# Altium footprint library OSSI.PCBLIB: 194 footprints (part 8 of 13)
Each footprint in its own frame and in the unit in brackets; x right, y up, seen from the top. Pads: shape width x height; smd on the part's side, far side on the other; paste and mask are expansions set on the pad; w line width, h text height; cw(c..) or ccw(c..) is an arc to the next point about the centre after c.
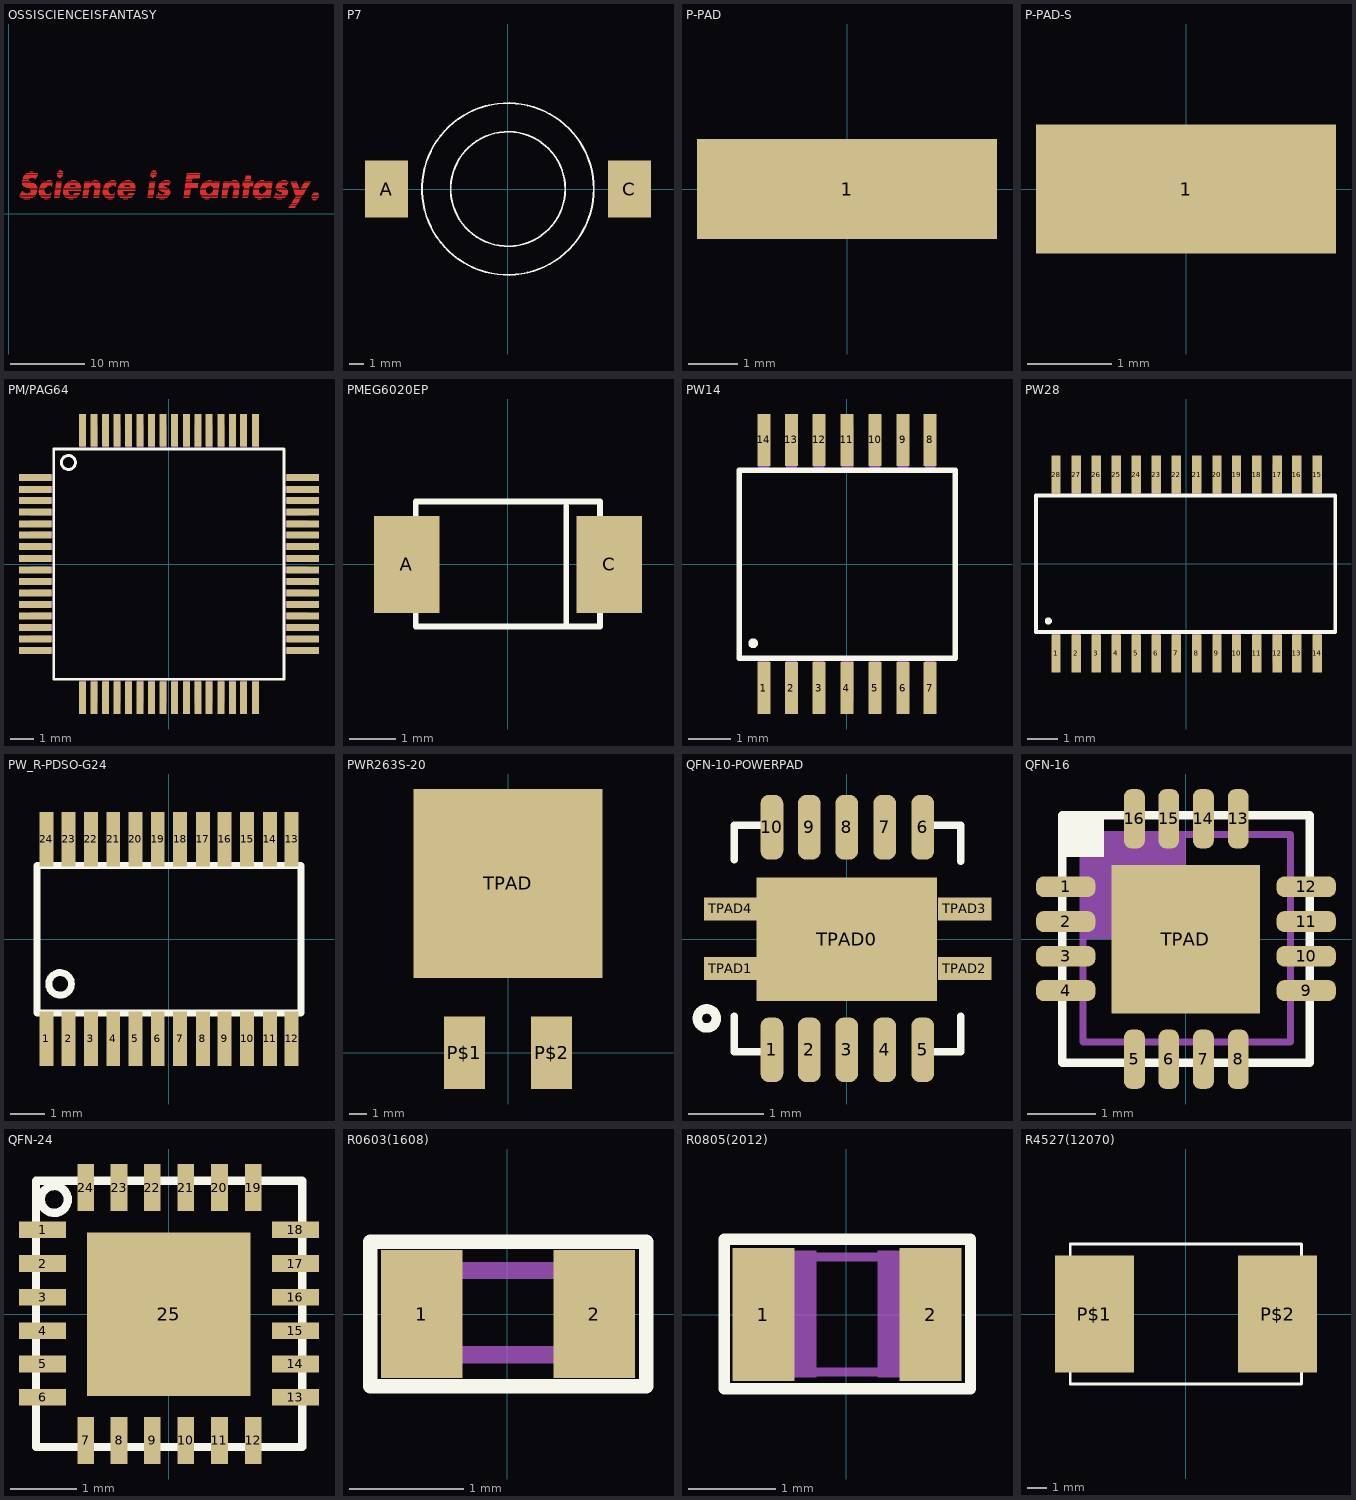
[diagram p7: the footprints below, top view; thin cyan lines are the x and y axes]

## OSSISCIENCEISFANTASY [mil]
Top Layer:
  drawing of 3176 lines, arcs and shapes, not listed
Top Solder:
  drawing of 3176 lines, arcs and shapes, not listed

## P7 [mil]
pads (2):
  rect 119x158 smd: A(-334.65,0) C(335,0)
Top Overlay:
  circle w5: c0,0 r158
  circle w5: c0,0 r237
Mechanical 2:
  text ">NAME" at -200,-350 h77.5
Mechanical 4:
  text ">VALUE" at -200,-400 h77.5

## P-PAD [mil]
pads (1):
  rect 237x79 smd: 1(0,0)
Mechanical 2:
  text ">NAME" at -150,50 h77.5
Mechanical 4:
  text ">VALUE" at -150,-100 h77.5

## P-PAD-S [mil]
pads (1):
  rect 140x60 smd: 1(0,0)
Mechanical 2:
  text ">NAME" at -100,50 h77.5
Mechanical 4:
  text ">VALUE" at -100,-100 h77.5

## PM/PAG64 [mil]
pads (64):
  rect 56x12 smd: 1(-228.35,148) 2(-228.35,128) 3(-228.35,109) 4(-228.35,89) 5(-228.35,69) 6(-228.35,50) 7(-228.35,30) 8(-228.35,10) 9(-228.35,-9.84) 10(-228.35,-29.53) 11(-228.35,-49.21) 12(-228.35,-68.9) 13(-228.35,-88.58) 14(-228.35,-108.27) 15(-228.35,-127.95) 16(-228.35,-147.64) 33(229,-147.64) 34(229,-127.95) 35(229,-108.27) 36(229,-88.58) 37(229,-68.9) 38(229,-49.21) 39(229,-29.53) 40(229,-9.84) 41(229,10) 42(229,30) 43(229,50) 44(229,69) 45(229,89) 46(229,109) 47(229,128) 48(229,148)
  rect 12x56 smd: 17(-147.64,-228.35) 18(-127.95,-228.35) 19(-108.27,-228.35) 20(-88.58,-228.35) 21(-68.9,-228.35) 22(-49.21,-228.35) 23(-29.53,-228.35) 24(-9.84,-228.35) 25(10,-228.35) 26(30,-228.35) 27(50,-228.35) 28(69,-228.35) 29(89,-228.35) 30(109,-228.35) 31(128,-228.35) 32(148,-228.35) 49(148,229) 50(128,229) 51(109,229) 52(89,229) 53(69,229) 54(50,229) 55(30,229) 56(10,229) 57(-9.84,229) 58(-29.53,229) 59(-49.21,229) 60(-68.9,229) 61(-88.58,229) 62(-108.27,229) 63(-127.95,229) 64(-147.64,229)
Top Overlay:
  circle w5: c-171.85,174 r12
  lines w5: -196.85,-196.85 197,-196.85 197,197 -196.85,197 -196.85,-196.85
Mechanical 2:
  text ">NAME" at -124.21,61 h77.5
Mechanical 4:
  rectangle: -153.15,200 -142.13,238
  rectangle: -133.46,200 -122.44,238
  rectangle: -113.78,200 -102.76,238
  rectangle: -94.09,200 -83.07,238
  rectangle: -74.41,200 -63.39,238
  rectangle: -54.72,200 -43.7,238
  rectangle: -35.04,200 -24.02,238
  rectangle: -15.35,200 -4.33,238
  rectangle: 5,200 16,238
  rectangle: 25,200 36,238
  rectangle: 44,200 55,238
  rectangle: 64,200 75,238
  rectangle: 84,200 95,238
  rectangle: 103,200 114,238
  rectangle: 123,200 134,238
  rectangle: 143,200 154,238
  rectangle: -153.15,-237.4 -142.13,-199.21
  rectangle: -133.46,-237.4 -122.44,-199.21
  rectangle: -113.78,-237.4 -102.76,-199.21
  rectangle: -94.09,-237.4 -83.07,-199.21
  rectangle: -74.41,-237.4 -63.39,-199.21
  rectangle: -54.72,-237.4 -43.7,-199.21
  rectangle: -35.04,-237.4 -24.02,-199.21
  rectangle: -15.35,-237.4 -4.33,-199.21
  rectangle: 5,-237.4 16,-199.21
  rectangle: 25,-237.4 36,-199.21
  rectangle: 44,-237.4 55,-199.21
  rectangle: 64,-237.4 75,-199.21
  rectangle: 84,-237.4 95,-199.21
  rectangle: 103,-237.4 114,-199.21
  rectangle: 123,-237.4 134,-199.21
  rectangle: 143,-237.4 154,-199.21
  region: 199.5,153.5 199.5,142.5 237.5,142.5 237.5,153.5
  region: 199,134 199,123 238,123 238,134
  region: 199.5,114.5 199.5,103.5 237.5,103.5 237.5,114.5
  region: 199.5,94.5 199.5,83.5 237.5,83.5 237.5,94.5
  region: 199.5,74.5 199.5,63.5 237.5,63.5 237.5,74.5
  region: 199.5,55.5 199.5,44.5 237.5,44.5 237.5,55.5
  region: 199.5,35.5 199.5,24.5 237.5,24.5 237.5,35.5
  region: 199.37,15.37 199.37,4.37 237.63,4.37 237.63,15.37
  region: 199.03,-3.97 199.03,-14.97 237.97,-14.97 237.97,-3.97
  region: 199.41,-24.03 199.41,-35.03 237.59,-35.03 237.59,-24.03
  region: 199.41,-43.71 199.41,-54.71 237.59,-54.71 237.59,-43.71
  region: 199.41,-63.4 199.41,-74.4 237.59,-74.4 237.59,-63.4
  region: 199.41,-83.08 199.41,-94.08 237.59,-94.08 237.59,-83.08
  region: 199.41,-102.77 199.41,-113.77 237.59,-113.77 237.59,-102.77
  region: 199.41,-122.45 199.41,-133.45 237.59,-133.45 237.59,-122.45
  region: 199.41,-142.14 199.41,-153.14 237.59,-153.14 237.59,-142.14
  region: -237.31,153.51 -237.31,142.49 -199.31,142.49 -199.31,153.51
  region: -237.81,134.01 -237.81,122.99 -198.81,122.99 -198.81,134.01
  region: -237.31,114.51 -237.31,103.49 -199.31,103.49 -199.31,114.51
  region: -237.31,94.51 -237.31,83.49 -199.31,83.49 -199.31,94.51
  region: -237.31,74.51 -237.31,63.49 -199.31,63.49 -199.31,74.51
  region: -237.31,55.51 -237.31,44.49 -199.31,44.49 -199.31,55.51
  region: -237.31,35.51 -237.31,24.49 -199.31,24.49 -199.31,35.51
  region: -237.43,15.39 -237.43,4.36 -199.18,4.36 -199.18,15.39
  region: -237.78,-3.96 -237.78,-14.98 -198.84,-14.98 -198.84,-3.96
  region: -237.4,-24.02 -237.4,-35.04 -199.21,-35.04 -199.21,-24.02
  region: -237.4,-43.7 -237.4,-54.72 -199.21,-54.72 -199.21,-43.7
  region: -237.4,-63.39 -237.4,-74.41 -199.21,-74.41 -199.21,-63.39
  region: -237.4,-83.07 -237.4,-94.09 -199.21,-94.09 -199.21,-83.07
  region: -237.4,-102.76 -237.4,-113.78 -199.21,-113.78 -199.21,-102.76
  region: -237.4,-122.44 -237.4,-133.46 -199.21,-133.46 -199.21,-122.44
  region: -237.4,-142.13 -237.4,-153.15 -199.21,-153.15 -199.21,-142.13
  text ">VALUE" at -139.37,-116.14 h77.5

## PMEG6020EP [mil]
pads (2):
  rect 56x83 smd: A(-86.61,0) C(87,0)
Top Overlay:
  lines w5: 50,-50 50,50 ; -78.74,-53.15 -78.74,54 79,54 79,-53.15 -78.74,-53.15
Mechanical 2:
  text ">NAME" at -125,75 h77.5
Mechanical 4:
  text ">VALUE" at -125,-125 h77.5

## PW14 [mil]
pads (14):
  rect 12x48 smd: 1(-76.77,-114.18) 2(-51.18,-114.18) 3(-25.59,-114.18) 4(0,-114.18) 5(26,-114.18) 6(52,-114.18) 7(77,-114.18) 8(77,115) 9(52,115) 10(26,115) 11(0,115) 12(-25.59,115) 13(-51.18,115) 14(-76.77,115)
Top Overlay:
  circle w5: c-86.62,-72.84 r2
  lines w5: -99.6,-86.62 -99.6,87 100,87 100,-86.62 -99.6,-86.62
Mechanical 2:
  text ">NAME" at -122.04,156 h77.5
Mechanical 4:
  rectangle: -81.89,89 -71.65,127
  rectangle: -56.3,89 -46.06,127
  rectangle: -30.71,89 -20.47,127
  rectangle: -5.12,89 6,127
  rectangle: 21,89 31,127
  rectangle: 47,89 57,127
  rectangle: 72,89 82,127
  rectangle: -81.89,-126.77 -71.65,-88.58
  rectangle: -56.3,-126.77 -46.06,-88.58
  rectangle: -30.71,-126.77 -20.47,-88.58
  rectangle: -5.12,-126.77 6,-88.58
  rectangle: 21,-126.77 31,-88.58
  rectangle: 47,-126.77 57,-88.58
  rectangle: 72,-126.77 82,-88.58
  text ">VALUE" at -135.82,-208.67 h77.5

## PW28 [mil]
pads (28):
  rect 12x48 smd: 1(-166.5,-114.49) 2(-140.91,-114.49) 3(-115.31,-114.49) 4(-89.73,-114.49) 5(-64.14,-114.49) 6(-38.55,-114.49) 7(-12.96,-114.49) 8(13,-114.49) 9(39,-114.49) 10(64,-114.49) 11(90,-114.49) 12(116,-114.49) 13(141,-114.49) 14(167,-114.49) 15(167,114) 16(141,114) 17(116,114) 18(90,114) 19(64,114) 20(39,114) 21(13,114) 22(-12.96,114) 23(-38.55,114) 24(-64.14,114) 25(-89.73,114) 26(-115.31,114) 27(-140.91,114) 28(-166.5,114)
Top Overlay:
  circle w5: c-176.33,-73.15 r2
  lines w5: -192.09,-86.93 -192.09,87 190,87 190,-86.93 -192.09,-86.93
Mechanical 2:
  text ">NAME" at -111.38,26 h77.5
Mechanical 4:
  rectangle: -171.65,88 -161.42,127
  rectangle: -146.06,88 -135.83,127
  rectangle: -120.47,88 -110.24,127
  rectangle: -94.88,88 -84.65,127
  rectangle: -69.29,88 -59.06,127
  rectangle: -43.7,88 -33.46,127
  rectangle: -18.11,88 -7.87,127
  rectangle: 8,88 18,127
  rectangle: 34,88 44,127
  rectangle: 59,88 69,127
  rectangle: 85,88 95,127
  rectangle: 110,88 121,127
  rectangle: 136,88 146,127
  rectangle: 162,88 172,127
  rectangle: -171.65,-126.97 -161.42,-88.78
  rectangle: -146.06,-126.97 -135.83,-88.78
  rectangle: -120.47,-126.97 -110.24,-88.78
  rectangle: -94.88,-126.97 -84.65,-88.78
  rectangle: -69.29,-126.97 -59.06,-88.78
  rectangle: -43.7,-126.97 -33.46,-88.78
  rectangle: -18.11,-126.97 -7.87,-88.78
  rectangle: 8,-126.97 18,-88.78
  rectangle: 34,-126.97 44,-88.78
  rectangle: 59,-126.97 69,-88.78
  rectangle: 85,-126.97 95,-88.78
  rectangle: 110,-126.97 121,-88.78
  rectangle: 136,-126.97 146,-88.78
  rectangle: 162,-126.97 172,-88.78
  text ">VALUE" at -117.29,-63.31 h77.5

## PW_R-PDSO-G24 [mil]
pads (24):
  rect 16x63 smd: 1(-140.75,-114.17) 2(-115.16,-114.17) 3(-89.57,-114.17) 4(-63.98,-114.17) 5(-38.39,-114.17) 6(-12.8,-114.17) 7(13,-114.17) 8(39,-114.17) 9(64,-114.17) 10(90,-114.17) 11(116,-114.17) 12(141,-114.17) 13(141,115) 14(116,115) 15(90,115) 16(64,115) 17(39,115) 18(13,115) 19(-12.8,115) 20(-38.39,115) 21(-63.98,115) 22(-89.57,115) 23(-115.16,115) 24(-140.75,115)
Top Overlay:
  circle w8: c-125,-51.18 r13
  lines w8: -151.57,-84.65 152,-84.65 152,85 -151.57,85 -151.57,-84.65
Mechanical 2:
  text ">NAME" at -166.34,-89.57 h77.5
Mechanical 4:
  text ">VALUE" at 218,-89.57 h77.5
Mechanical 16:
  rectangle: -146.65,-129.92 -134.84,-87.8
  rectangle: -121.06,-129.92 -109.25,-87.8
  rectangle: -95.47,-129.92 -83.66,-87.8
  rectangle: -69.88,-129.92 -58.07,-87.8
  rectangle: -44.29,-129.92 -32.48,-87.8
  rectangle: -18.7,-129.92 -6.89,-87.8
  rectangle: 7,-129.92 19,-87.8
  rectangle: 33,-129.92 45,-87.8
  rectangle: 59,-129.92 70,-87.8
  rectangle: 84,-129.92 96,-87.8
  rectangle: 110,-129.92 122,-87.8
  rectangle: 135,-129.92 147,-87.8
  region: 147,130 135,130 135,88 147,88
  region: 122,130 110,130 110,88 122,88
  region: 96,130 84,130 84,88 96,88
  region: 70,130 59,130 59,88 70,88
  region: 45,130 33,130 33,88 45,88
  region: 19,130 7,130 7,88 19,88
  region: -6.89,130 -18.7,130 -18.7,88 -6.89,88
  region: -32.48,130 -44.29,130 -44.29,88 -32.48,88
  region: -58.07,130 -69.88,130 -69.88,88 -58.07,88
  region: -83.66,130 -95.47,130 -95.47,88 -83.66,88
  region: -109.25,130 -121.06,130 -121.06,88 -109.25,88
  region: -134.84,130 -146.65,130 -146.65,88 -134.84,88

## PWR263S-20 [mil]
pads (3):
  rect 95x167 smd: P$1(-100,0) P$2(100,0)
  rect 434x434 smd: TPAD(0,389)
Mechanical 2:
  text ">NAME" at -200,700 h77.5
Mechanical 4:
  text ">VALUE" at -200,650 h77.5

## QFN-10-POWERPAD [mil]
pads (15):
  rrect75% 12x34 smd: 1(-39.37,-58.07) 2(-19.68,-58.07) 3(0,-58.07) 4(20,-58.07) 5(40,-58.07) 6(40,59) 7(20,59) 8(0,59) 9(-19.68,59) 10(-39.37,59)
  rect 95x65 smd: TPAD0(0,0)
  rect 28x12 smd: TPAD1(-61.02,-15.35) TPAD2(62,-15.35) TPAD3(62,16) TPAD4(-61.02,16)
Top Overlay:
  circle w5: c-73.62,-41.54 r5
  lines w4: -59.06,-40.35 -59.06,-59.06 -40.35,-59.06 ; -59.06,42 -59.06,60 -41.34,60 ; 41,-59.06 60,-59.06 60,-40.35 ; 41,60 60,60 60,41
Top Solder:
  rectangle: -47.64,39 -31.1,78
  rectangle: -27.95,39 -11.42,78
  rectangle: -8.27,39 9,78
  rectangle: 12,39 28,78
  rectangle: 32,39 48,78
  rectangle: -47.64,-77.56 -31.1,-38.58
  rectangle: -27.95,-77.56 -11.42,-38.58
  rectangle: -8.27,-77.56 9,-38.58
  rectangle: 12,-77.56 28,-38.58
  rectangle: 32,-77.56 48,-38.58
  rectangle: -78.74,7 -51.18,24
  rectangle: -78.74,-23.62 -51.18,-7.09
  rectangle: 52,-23.62 79,-7.09
  rectangle: 52,7 79,24
  region: 0,0 10,0 10,10 0,10
Mechanical 2:
  text ">NAME" at -78.74,79 h77.5
Mechanical 4:
  text ">VALUE" at -78.74,-137.8 h77.5

## QFN-16 [mil]
pads (17):
  rrect75% 34x12 smd: 1(-68.9,30) 2(-68.9,10) 3(-68.9,-9.84) 4(-68.9,-29.53) 9(69,-29.53) 10(69,-9.84) 11(69,10) 12(69,30)
  rrect75% 12x34 smd: 5(-29.53,-68.9) 6(-9.84,-68.9) 7(10,-68.9) 8(30,-68.9) 13(30,69) 14(10,69) 15(-9.84,69) 16(-29.53,69)
  rect 85x85 smd: TPAD(0,0)
Top Overlay:
  rectangle: -70.87,47 -47,71
  lines w5: -70.87,-70.87 -70.87,71 71,71 71,-70.87 -70.87,-70.87
Top Paste:
  circle w0: c-47.24,30 r5
  circle w0: c-47.24,10 r5
  circle w0: c-47.24,-9.84 r5
  circle w0: c-47.24,-29.53 r5
  circle w0: c-29.53,-47.24 r5
  circle w0: c-9.84,-47.24 r5
  circle w0: c10,-47.24 r5
  circle w0: c30,-47.24 r5
  circle w0: c48,-29.53 r5
  circle w0: c48,-9.84 r5
  circle w0: c48,10 r5
  circle w0: c48,30 r5
  circle w0: c30,48 r5
  circle w0: c10,48 r5
  circle w0: c-9.84,48 r5
  circle w0: c-29.53,48 r5
  region: -3.72,4.22 -3.72,31.78 -31.72,31.78 -31.72,4.22
  rectangle: -72.83,25 -47.24,35
  rectangle: -72.83,5 -47.24,15
  rectangle: -72.83,-14.76 -47.24,-4.92
  rectangle: -72.83,-34.45 -47.24,-24.61
  region: -24.61,-72.83 -24.61,-47.24 -34.45,-47.24 -34.45,-72.83
  region: -4.9,-72.86 -4.9,-47.22 -14.74,-47.22 -14.74,-72.86
  region: 14.94,-73.02 14.94,-47.06 5.1,-47.06 5.1,-73.02
  region: 34.92,-73.04 34.92,-47.04 25.08,-47.04 25.08,-73.04
  region: 73,-24.61 48,-24.61 48,-34.45 73,-34.45
  region: 73,-4.92 48,-4.92 48,-14.76 73,-14.76
  region: 73,15 48,15 48,5 73,5
  region: 73,35 48,35 48,25 73,25
  region: 25.5,73.5 25.5,47.5 34.5,47.5 34.5,73.5
  region: 5.52,73.48 5.52,47.52 14.52,47.52 14.52,73.48
  region: -14.32,73.32 -14.32,47.68 -5.32,47.68 -5.32,73.32
  region: -34.03,73.3 -34.03,47.7 -25.03,47.7 -25.03,73.3
  region: -3.94,-3.94 -31.5,-3.94 -31.5,-31.5 -3.94,-31.5
  region: 4.22,-3.72 4.22,-31.72 31.78,-31.72 31.78,-3.72
  rectangle: 4,4 32,32
Top Solder:
  circle w0: c-47.24,30 r8
  circle w0: c-47.24,10 r8
  circle w0: c-47.24,-9.84 r8
  circle w0: c-47.24,-29.53 r8
  circle w0: c-29.53,-47.24 r8
  circle w0: c-9.84,-47.24 r8
  circle w0: c10,-47.24 r8
  circle w0: c30,-47.24 r8
  circle w0: c48,-29.53 r8
  circle w0: c48,-9.84 r8
  circle w0: c48,10 r8
  circle w0: c48,30 r8
  circle w0: c30,48 r8
  circle w0: c10,48 r8
  circle w0: c-9.84,48 r8
  circle w0: c-29.53,48 r8
  rectangle: -34.45,-34.45 35,35
  rectangle: -74.8,22 -47.24,38
  rectangle: -74.8,2 -47.24,18
  rectangle: -74.8,-17.72 -47.24,-1.97
  rectangle: -74.8,-37.4 -47.24,-21.65
  region: -21.65,-74.8 -21.65,-47.24 -37.4,-47.24 -37.4,-74.8
  region: -1.94,-74.83 -1.94,-47.21 -17.68,-47.21 -17.68,-74.83
  region: 17.91,-74.99 17.91,-47.06 2.16,-47.06 2.16,-74.99
  region: 37.87,-75.02 37.87,-47.02 22.13,-47.02 22.13,-75.02
  region: 75,-21.65 48,-21.65 48,-37.4 75,-37.4
  region: 75,-1.97 48,-1.97 48,-17.72 75,-17.72
  region: 75,18 48,18 48,2 75,2
  region: 75,38 48,38 48,22 75,22
  region: 22.5,75.5 22.5,47.5 37.5,47.5 37.5,75.5
  region: 2.53,75.47 2.53,47.53 17.53,47.53 17.53,75.47
  region: -17.31,75.31 -17.31,47.69 -2.31,47.69 -2.31,75.31
  region: -37.03,75.28 -37.03,47.72 -22.03,47.72 -22.03,75.28
Mechanical 2:
  text ">NAME" at -128.74,104 h77.5
Mechanical 4:
  text ">VALUE" at -128.74,-162.8 h77.5
Mechanical 16:
  rectangle: -59.06,0 0,60
  lines w4: -59.06,-59.06 60,-59.06 60,60 -59.06,60 -59.06,-59.06

## QFN-24 [mil]
pads (25):
  rect 28x10 smd: 1(-74.8,50) 2(-74.8,30) 3(-74.8,10) 4(-74.8,-9.84) 5(-74.8,-29.53) 6(-74.8,-49.21) 13(75,-49.21) 14(75,-29.53) 15(75,-9.84) 16(75,10) 17(75,30) 18(75,50)
  rect 10x28 smd: 7(-49.21,-74.8) 8(-29.53,-74.8) 9(-9.84,-74.8) 10(10,-74.8) 11(30,-74.8) 12(50,-74.8) 19(50,75) 20(30,75) 21(10,75) 22(-9.84,75) 23(-29.53,75) 24(-49.21,75)
  rect 97x97 smd: 25(0,0)
Top Overlay:
  circle w5: c-67.91,68 r8
  lines w5: -78.74,-78.74 -78.74,79 79,79 79,-78.74 -78.74,-78.74
Mechanical 2:
  text ">NAME" at -123.03,109 h77.5
Mechanical 4:
  text ">VALUE" at -128.94,-155.51 h77.5

## R0603(1608) [mil]
pads (2):
  rect 28x44 smd: 1(-29.53,0) 2(30,0)
Top Overlay:
  lines w5: -47.24,-25 48,-25 48,25 -47.24,25 -47.24,-25
Mechanical 2:
  text ">NAME" at -35,35 h77.5
Mechanical 4:
  text ">VALUE" at -35,-80 h77.5
Mechanical 16:
  rectangle: 17,-17 33,17
  rectangle: -33,-17 -17,17
  lines w6: -17.01,-14.02 18,-14.02 ; -17.01,15 18,15

## R0805(2012) [mil]
pads (2):
  rect 28x60 smd: 1(-37.4,0) 2(38,0)
Top Overlay:
  lines w5: -55.12,-33.46 56,-33.46 56,34 -55.12,34 -55.12,-33.46
Mechanical 2:
  text ">NAME" at -35,40 h77.5
Mechanical 4:
  text ">VALUE" at -35,-90 h77.5
Mechanical 16:
  rectangle: -43,-28.5 -13.47,29
  rectangle: 14,-28.5 44,29
  lines w4: -15,26 15,26 ; -14.02,-25.98 15,-25.98

## R4527(12070) [mil]
pads (2):
  rect 156x230 smd: P$1(-180.12,0) P$2(181,0)
Top Overlay:
  lines w5: -227.56,-137.8 -227.56,138 228,138 228,-137.8 -227.56,-137.8
Mechanical 2:
  text ">NAME" at -250,200 h77.5
Mechanical 4:
  text ">VALUE" at -250,150 h77.5